# Altium schematic symbol library 615008144221.SchLib: 1 symbol
Pins are listed as number, name and electrical type; pins without a type are passive.

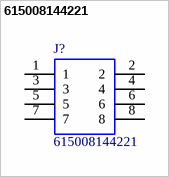
[diagram p0: symbol 615008144221]

## 615008144221
designator J?
Modular Jack RJ45 8P8C Wurth Elektronik Female RJ45 Modular Jack, STP, Vertical, PCB Mount Mount, WR-MJ 615008 Series; RS Part Number: 1635318; Manufacturer_Name: Wurth Elektronik; Manufacturer_Part_Number: 615008144221; Datasheet Link: http://uk.rs-online.com/web/p/products/1635318
footprint 61500814221
pins: 1, 2, 3, 4, 5, 6, 7, 8